# Altium schematic symbol library Schlib1.SchLib: 1 symbol
Pins are listed as number, name and electrical type; pins without a type are passive.

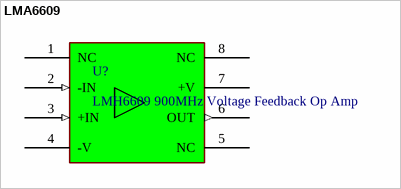
[diagram p0: symbol LMA6609]

## LMA6609
designator U?, comment LMH6609 900MHz Voltage Feedback Op Amp
pins: 1 NC, 2 -IN (in), 3 +IN (in), 4 -V (power), 5 NC, 6 OUT (out), 7 +V (power), 8 NC